# Altium integrated library Display_DOGS.IntLib: 1 symbol
Pins are listed as number, name and electrical type; pins without a type are passive.

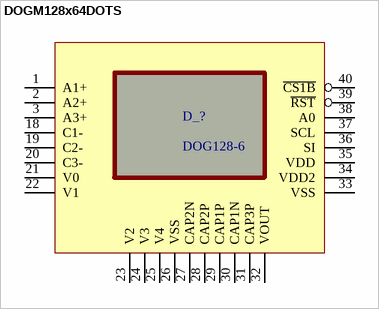
[diagram p0: symbol DOGM128x64DOTS]

## DOGM128x64DOTS
designator D_?, comment DOG128-6
EA DOG128-6; Componente: EA DOGM128-6; Fabricante: Electronic Assembly; Resolución: 128x64 puntos; Autor: ROUX, Federico G.(rouxfederico@gmail.com); Empresa: Neróx S.R.L.; Comentario: Contiene solo Footprint 2D(16/06/2011); URL: www.lcd-module.de; Fecha: 16/06/2011
footprint EA_DOGL128-6 (Footprint del Display DOGL128-6)
footprint EA_DOGM128-6 (Footprint del Display DOGS128x6)
pins: 1 A1+, 2 A2+, 3 A3+, 18 C1-, 19 C2-, 20 C3-, 21 V0, 22 V1, 23 V2, 24 V3, 25 V4, 26 VSS, 27 CAP2N, 28 CAP2P, 29 CAP1P, 30 CAP1N, 31 CAP3P, 32 VOUT, 33 VSS, 34 VDD2, 35 VDD, 36 SI, 37 SCL, 38 A0, 39 ~{RST}, 40 ~{CS1B}